# Altium integrated library NSC Amplifier.IntLib: 1615 symbols (part 24 of 44)
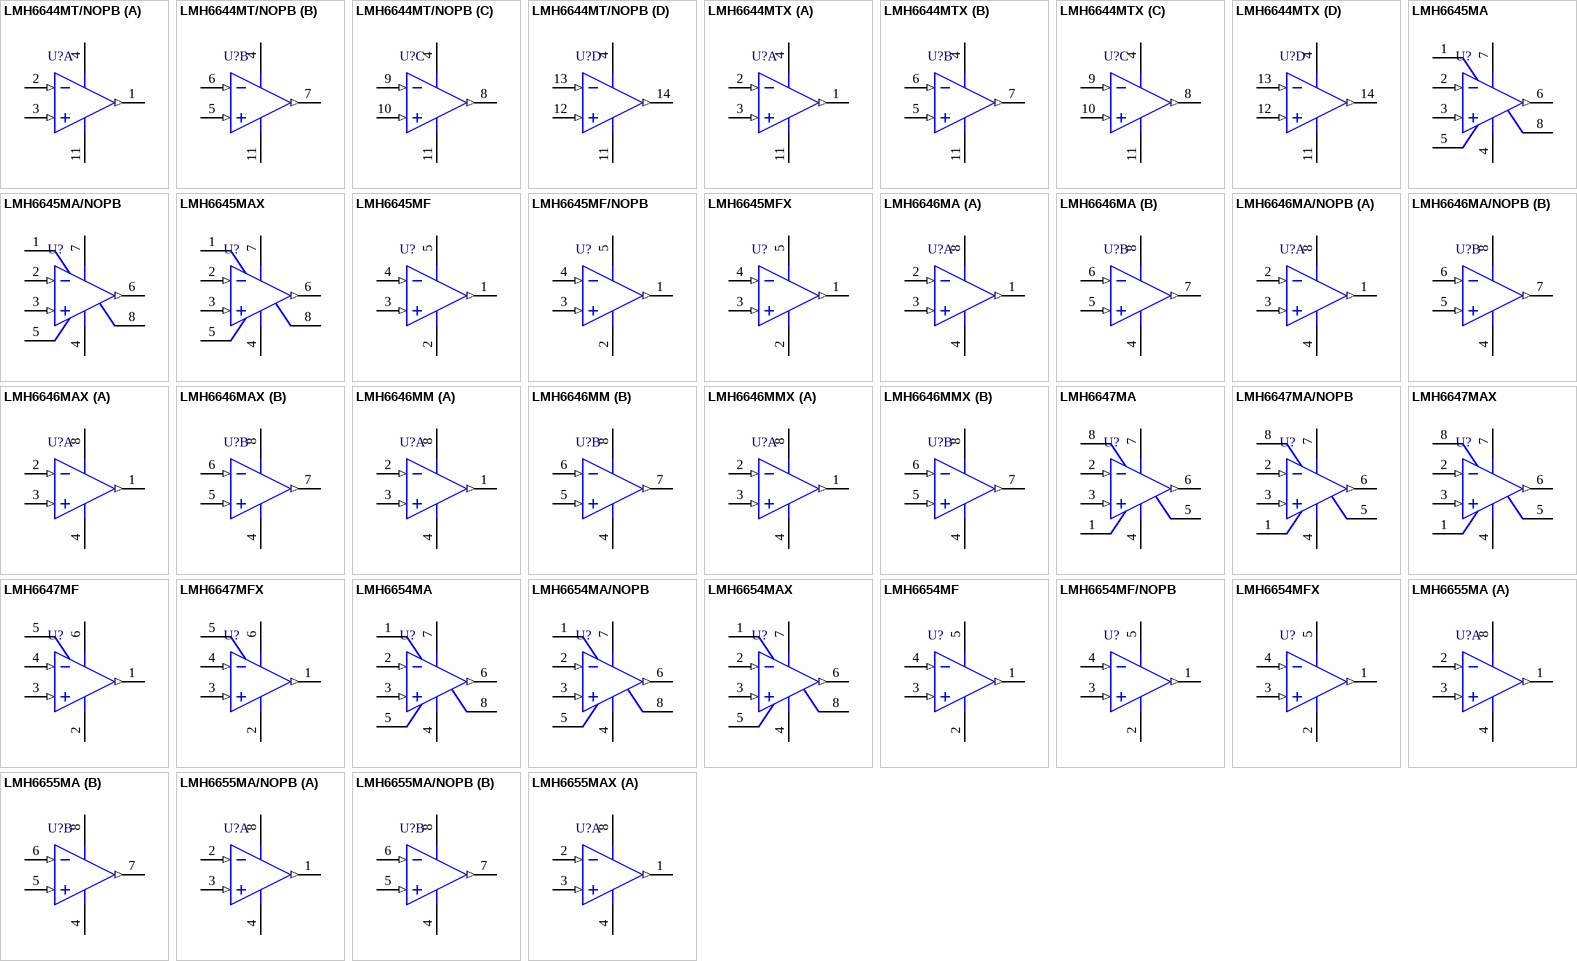
[diagram p105: symbols LMH6644MT/NOPB to LMH6655MAX]

## LMH6645MF/NOPB
designator U?
2.7V, 650uA, 65MHz, Rail-to-Rail Input and Output Amplifiers with Shutdown Option, 5-pin SOT-23, Pb-Free; PartNumber: LMH6645MF/NOPB; Manufacturer: National Semiconductor; PackageTopMarking: A68A*XTT; PowerWise: Y; Published: 1-Mar-2010; DatasheetVersion: Jun-2005; PackageVersion: revD, Aug-2008; PackageReference: MF05A; Publisher: Altium Limited; PackageDescription: Molded SOT-23, .115 x .063 x .040 in Body, 5 Lead, .0375 in Pitch; Supplier 1: Digi-Key; Supplier Part Number 1: LMH6645MFTR-ND; Supplier 2: Digi-Key; Supplier Part Number 2: LMH6645MFCT-ND; Supplier 3: Digi-Key; Supplier Part Number 3: LMH6645MFDKR-ND; Supplier 4: Farnell; Supplier Part Number 4: 1468899; RoHS: Y; PinCount: 5; CompType: Amplifiers; ComponentLink1Description: LMH6645 Datasheet; ComponentLink1URL: http://www.national.com/ds/LM/LMH6645.pdf; ComponentLink2Description: LMH6645 Web Page; ComponentLink2URL: http://www.national.com/pf/LM/LMH6645.html; ComponentLink3Description: MF05A Package Page; ComponentLink3URL: http://www.national.com/packaging/folders/mf05a.html
footprint MF05A_N (SOT23, 5-Leads, Body 2.9x1.6mm, Pitch 0.95mm, Lead Span 2.8mm, IPC Medium Density)
footprint MF05A_L (SOT23, 5-Leads, Body 2.9x1.6mm, Pitch 0.95mm, Lead Span 2.8mm, IPC High Density)
footprint MF05A_M (SOT23, 5-Leads, Body 2.9x1.6mm, Pitch 0.95mm, Lead Span 2.8mm, IPC Low Density)
simulation model LMH6645 (SUBCKT)
pins: 1 OUT (out), 2 V- (power), 3 IN+ (in), 4 IN- (in), 5 V+ (power)

## LMH6645MFX
designator U?
2.7V, 650uA, 65MHz, Rail-to-Rail Input and Output Amplifiers with Shutdown Option, 5-pin SOT-23; PartNumber: LMH6645MFX; Manufacturer: National Semiconductor; PackageTopMarking: A68A*XTT; PowerWise: Y; Published: 1-Mar-2010; DatasheetVersion: Jun-2005; PackageVersion: revD, Aug-2008; PackageReference: MF05A; Publisher: Altium Limited; PackageDescription: Molded SOT-23, .115 x .063 x .040 in Body, 5 Lead, .0375 in Pitch; RoHS: N; PinCount: 5; CompType: Amplifiers; ComponentLink1Description: LMH6645 Datasheet; ComponentLink1URL: http://www.national.com/ds/LM/LMH6645.pdf; ComponentLink2Description: LMH6645 Web Page; ComponentLink2URL: http://www.national.com/pf/LM/LMH6645.html; ComponentLink3Description: MF05A Package Page; ComponentLink3URL: http://www.national.com/packaging/folders/mf05a.html
footprint MF05A_N (SOT23, 5-Leads, Body 2.9x1.6mm, Pitch 0.95mm, Lead Span 2.8mm, IPC Medium Density)
footprint MF05A_L (SOT23, 5-Leads, Body 2.9x1.6mm, Pitch 0.95mm, Lead Span 2.8mm, IPC High Density)
footprint MF05A_M (SOT23, 5-Leads, Body 2.9x1.6mm, Pitch 0.95mm, Lead Span 2.8mm, IPC Low Density)
simulation model LMH6645 (SUBCKT)
pins: 1 OUT (out), 2 V- (power), 3 IN+ (in), 4 IN- (in), 5 V+ (power)

## LMH6646MA
designator U?
2.7V, 650uA, 65MHz, Rail-to-Rail Input and Output Amplifiers with Shutdown Option, 8-pin Narrow SOIC; PartNumber: LMH6646MA; Manufacturer: National Semiconductor; PackageTopMarking: NSZXTT*LMH66*46MA; PowerWise: Y; Published: 4-Dec-2008; LatestRevisionDate: 13-Jan-2009; LatestRevisionNote: Sim Model Added.; DatasheetVersion: Jun-2005; PackageVersion: revM, May-2009; PackageReference: M08A; Publisher: Altium Limited; PackageDescription: SOIC Narrow, 4.9 x 3.9 x 1.45mm, 8 Lead, 1.27mm Pitch; RoHS: N; PinCount: 8; CompType: Amplifiers; Code_JEDEC: MS-012-AA; Code_IPC: SOIC127P600-8; ComponentLink1Description: LMH6646 Datasheet; ComponentLink1URL: http://www.national.com/ds/LM/LMH6646.pdf; ComponentLink2Description: LMH6646 Web Page; ComponentLink2URL: http://www.national.com/pf/LM/LMH6646.html; ComponentLink3Description: M08A Package Page; ComponentLink3URL: http://www.national.com/packaging/folders/m08a.html
footprint M08A_N (SOIC, 8-Leads, Body 4.9x3.9mm, Pitch 1.27mm, IPC Medium Density)
footprint M08A_L (SOIC, 8-Leads, Body 4.9x3.9mm, Pitch 1.27mm, IPC High Density)
footprint M08A_M (SOIC, 8-Leads, Body 4.9x3.9mm, Pitch 1.27mm, IPC Low Density)
simulation model LMH6646 (SUBCKT)
pins on every part: 4 V- (power), 8 V+ (power)
part A pins: 1 OUTA (out), 2 INA- (in), 3 INA+ (in)
part B pins: 5 INB+ (in), 6 INB- (in), 7 OUTB (out)

## LMH6646MA/NOPB
designator U?
2.7V, 650uA, 65MHz, Rail-to-Rail Input and Output Amplifiers with Shutdown Option, 8-pin Narrow SOIC, Pb-Free; PartNumber: LMH6646MA/NOPB; Manufacturer: National Semiconductor; PackageTopMarking: NSZXTT*LMH66*46MA; PowerWise: Y; Published: 1-Mar-2010; DatasheetVersion: Jun-2005; PackageVersion: revM, May-2009; PackageReference: M08A; Publisher: Altium Limited; PackageDescription: SOIC Narrow, 4.9 x 3.9 x 1.45mm, 8 Lead, 1.27mm Pitch; Supplier 1: Digi-Key; Supplier Part Number 1: LMH6646MA-ND; Supplier 2: Farnell; Supplier Part Number 2: 1258319; RoHS: Y; PinCount: 8; CompType: Amplifiers; Code_JEDEC: MS-012-AA; Code_IPC: SOIC127P600-8; ComponentLink1Description: LMH6646 Datasheet; ComponentLink1URL: http://www.national.com/ds/LM/LMH6646.pdf; ComponentLink2Description: LMH6646 Web Page; ComponentLink2URL: http://www.national.com/pf/LM/LMH6646.html; ComponentLink3Description: M08A Package Page; ComponentLink3URL: http://www.national.com/packaging/folders/m08a.html
footprint M08A_N (SOIC, 8-Leads, Body 4.9x3.9mm, Pitch 1.27mm, IPC Medium Density)
footprint M08A_L (SOIC, 8-Leads, Body 4.9x3.9mm, Pitch 1.27mm, IPC High Density)
footprint M08A_M (SOIC, 8-Leads, Body 4.9x3.9mm, Pitch 1.27mm, IPC Low Density)
simulation model LMH6646 (SUBCKT)
pins on every part: 4 V- (power), 8 V+ (power)
part A pins: 1 OUTA (out), 2 INA- (in), 3 INA+ (in)
part B pins: 5 INB+ (in), 6 INB- (in), 7 OUTB (out)

## LMH6646MAX
designator U?
2.7V, 650uA, 65MHz, Rail-to-Rail Input and Output Amplifiers with Shutdown Option, 8-pin Narrow SOIC; PartNumber: LMH6646MAX; Manufacturer: National Semiconductor; PackageTopMarking: NSZXTT*LMH66*46MA; PowerWise: Y; Published: 1-Mar-2010; DatasheetVersion: Jun-2005; PackageVersion: revM, May-2009; PackageReference: M08A; Publisher: Altium Limited; PackageDescription: SOIC Narrow, 4.9 x 3.9 x 1.45mm, 8 Lead, 1.27mm Pitch; RoHS: N; PinCount: 8; CompType: Amplifiers; Code_JEDEC: MS-012-AA; Code_IPC: SOIC127P600-8; ComponentLink1Description: LMH6646 Datasheet; ComponentLink1URL: http://www.national.com/ds/LM/LMH6646.pdf; ComponentLink2Description: LMH6646 Web Page; ComponentLink2URL: http://www.national.com/pf/LM/LMH6646.html; ComponentLink3Description: M08A Package Page; ComponentLink3URL: http://www.national.com/packaging/folders/m08a.html
footprint M08A_N (SOIC, 8-Leads, Body 4.9x3.9mm, Pitch 1.27mm, IPC Medium Density)
footprint M08A_L (SOIC, 8-Leads, Body 4.9x3.9mm, Pitch 1.27mm, IPC High Density)
footprint M08A_M (SOIC, 8-Leads, Body 4.9x3.9mm, Pitch 1.27mm, IPC Low Density)
simulation model LMH6646 (SUBCKT)
pins on every part: 4 V- (power), 8 V+ (power)
part A pins: 1 OUTA (out), 2 INA- (in), 3 INA+ (in)
part B pins: 5 INB+ (in), 6 INB- (in), 7 OUTB (out)

## LMH6646MM
designator U?
2.7V, 650uA, 65MHz, Rail-to-Rail Input and Output Amplifiers with Shutdown Option, 8-pin Mini SOIC; PartNumber: LMH6646MM; Manufacturer: National Semiconductor; PackageTopMarking: ZXTT*A70A; PowerWise: Y; Published: 4-Dec-2008; LatestRevisionDate: 13-Jan-2009; LatestRevisionNote: Sim Model Added.; DatasheetVersion: Jun-2005; PackageVersion: revF, Apr-2008; PackageReference: MUA08A; Publisher: Altium Limited; PackageDescription: MINI SOIC, .118 x .118 x .034in, 8 Lead, .0256in Pitch; Supplier 1: Digi-Key; Supplier Part Number 1: LMH6646MMTR-ND; Supplier 2: Digi-Key; Supplier Part Number 2: LMH6646MMCT-ND; Supplier 3: Farnell; Supplier Part Number 3: 1312814; RoHS: N; PinCount: 8; CompType: Amplifiers; Code_JEDEC: MO-187-AA; ComponentLink1Description: LMH6646 Datasheet; ComponentLink1URL: http://www.national.com/ds/LM/LMH6646.pdf; ComponentLink2Description: LMH6646 Web Page; ComponentLink2URL: http://www.national.com/pf/LM/LMH6646.html; ComponentLink3Description: MUA08A Package Page; ComponentLink3URL: http://www.national.com/packaging/folders/mua08a.html
footprint MUA08A_N (TSOP, 8-Leads, Body 3x3mm, Pitch 0.65mm, IPC Medium Density)
footprint MUA08A_L (TSOP, 8-Leads, Body 3x3mm, Pitch 0.65mm, IPC High Density)
footprint MUA08A_M (TSOP, 8-Leads, Body 3x3mm, Pitch 0.65mm, IPC Low Density)
simulation model LMH6646 (SUBCKT)
pins on every part: 4 V- (power), 8 V+ (power)
part A pins: 1 OUTA (out), 2 INA- (in), 3 INA+ (in)
part B pins: 5 INB+ (in), 6 INB- (in), 7 OUTB (out)

## LMH6646MMX
designator U?
2.7V, 650uA, 65MHz, Rail-to-Rail Input and Output Amplifiers with Shutdown Option, 8-pin Mini SOIC; PartNumber: LMH6646MMX; Manufacturer: National Semiconductor; PackageTopMarking: ZXTT*A70A; PowerWise: Y; Published: 1-Mar-2010; DatasheetVersion: Jun-2005; PackageVersion: revF, Apr-2008; PackageReference: MUA08A; Publisher: Altium Limited; PackageDescription: MINI SOIC, .118 x .118 x .034in, 8 Lead, .0256in Pitch; Supplier 1: Digi-Key; Supplier Part Number 1: LMH6646MMX-ND; RoHS: N; PinCount: 8; CompType: Amplifiers; Code_JEDEC: MO-187-AA; ComponentLink1Description: LMH6646 Datasheet; ComponentLink1URL: http://www.national.com/ds/LM/LMH6646.pdf; ComponentLink2Description: LMH6646 Web Page; ComponentLink2URL: http://www.national.com/pf/LM/LMH6646.html; ComponentLink3Description: MUA08A Package Page; ComponentLink3URL: http://www.national.com/packaging/folders/mua08a.html
footprint MUA08A_N (TSOP, 8-Leads, Body 3x3mm, Pitch 0.65mm, IPC Medium Density)
footprint MUA08A_L (TSOP, 8-Leads, Body 3x3mm, Pitch 0.65mm, IPC High Density)
footprint MUA08A_M (TSOP, 8-Leads, Body 3x3mm, Pitch 0.65mm, IPC Low Density)
simulation model LMH6646 (SUBCKT)
pins on every part: 4 V- (power), 8 V+ (power)
part A pins: 1 OUTA (out), 2 INA- (in), 3 INA+ (in)
part B pins: 5 INB+ (in), 6 INB- (in), 7 OUTB (out)

## LMH6647MA
designator U?
2.7V, 650uA, 65MHz, Rail-to-Rail Input and Output Amplifiers with Shutdown Option, 8-pin Narrow SOIC; PartNumber: LMH6647MA; Manufacturer: National Semiconductor; PackageTopMarking: NSZXTT*LMH66*47MA; PowerWise: Y; Published: 4-Dec-2008; LatestRevisionDate: 13-Jan-2009; LatestRevisionNote: Sim Model Added.; DatasheetVersion: Jun-2005; PackageVersion: revM, May-2009; PackageReference: M08A; Publisher: Altium Limited; PackageDescription: SOIC Narrow, 4.9 x 3.9 x 1.45mm, 8 Lead, 1.27mm Pitch; RoHS: N; PinCount: 8; CompType: Amplifiers; Code_JEDEC: MS-012-AA; Code_IPC: SOIC127P600-8; ComponentLink1Description: LMH6647 Datasheet; ComponentLink1URL: http://www.national.com/ds/LM/LMH6647.pdf; ComponentLink2Description: LMH6647 Web Page; ComponentLink2URL: http://www.national.com/pf/LM/LMH6647.html; ComponentLink3Description: M08A Package Page; ComponentLink3URL: http://www.national.com/packaging/folders/m08a.html
footprint M08A_N (SOIC, 8-Leads, Body 4.9x3.9mm, Pitch 1.27mm, IPC Medium Density)
footprint M08A_L (SOIC, 8-Leads, Body 4.9x3.9mm, Pitch 1.27mm, IPC High Density)
footprint M08A_M (SOIC, 8-Leads, Body 4.9x3.9mm, Pitch 1.27mm, IPC Low Density)
simulation model LMH6647 (SUBCKT)
pins: 1 NC, 2 IN- (in), 3 IN+ (in), 4 V- (power), 5 NC, 6 OUT (out), 7 V+ (power), 8 SD

## LMH6647MA/NOPB
designator U?
2.7V, 650µA, 55MHz, Rail-to-Rail Input and Output Amplifiers with Shutdown Option, 8-pin Narrow SOIC, Pb-Free; PartNumber: LMH6647MA/NOPB; Manufacturer: National Semiconductor; PackageTopMarking: NSZXTT*LMH66*47MA; PowerWise: Y; Published: 1-Mar-2010; DatasheetVersion: Jun-2005; PackageVersion: revM, May-2009; PackageReference: M08A; Publisher: Altium Limited; PackageDescription: SOIC Narrow, 4.9 x 3.9 x 1.45mm, 8 Lead, 1.27mm Pitch; Supplier 1: Digi-Key; Supplier Part Number 1: LMH6647MA-ND; RoHS: Y; PinCount: 8; CompType: Amplifiers; Code_JEDEC: MS-012-AA; Code_IPC: SOIC127P600-8; ComponentLink1Description: LMH6647 Datasheet; ComponentLink1URL: http://www.national.com/ds/LM/LMH6647.pdf; ComponentLink2Description: LMH6647 Web Page; ComponentLink2URL: http://www.national.com/pf/LM/LMH6647.html; ComponentLink3Description: M08A Package Page; ComponentLink3URL: http://www.national.com/packaging/folders/m08a.html
footprint M08A_N (SOIC, 8-Leads, Body 4.9x3.9mm, Pitch 1.27mm, IPC Medium Density)
footprint M08A_L (SOIC, 8-Leads, Body 4.9x3.9mm, Pitch 1.27mm, IPC High Density)
footprint M08A_M (SOIC, 8-Leads, Body 4.9x3.9mm, Pitch 1.27mm, IPC Low Density)
simulation model LMH6647 (SUBCKT)
pins: 1 NC, 2 IN- (in), 3 IN+ (in), 4 V- (power), 5 NC, 6 OUT (out), 7 V+ (power), 8 SD

## LMH6647MAX
designator U?
2.7V, 650µA, 55MHz, Rail-to-Rail Input and Output Amplifiers with Shutdown Option, 8-pin Narrow SOIC; PartNumber: LMH6647MAX; Manufacturer: National Semiconductor; PackageTopMarking: NSZXTT*LMH66*47MA; PowerWise: Y; Published: 1-Mar-2010; DatasheetVersion: Jun-2005; PackageVersion: revM, May-2009; PackageReference: M08A; Publisher: Altium Limited; PackageDescription: SOIC Narrow, 4.9 x 3.9 x 1.45mm, 8 Lead, 1.27mm Pitch; RoHS: N; PinCount: 8; CompType: Amplifiers; Code_JEDEC: MS-012-AA; Code_IPC: SOIC127P600-8; ComponentLink1Description: LMH6647 Datasheet; ComponentLink1URL: http://www.national.com/ds/LM/LMH6647.pdf; ComponentLink2Description: LMH6647 Web Page; ComponentLink2URL: http://www.national.com/pf/LM/LMH6647.html; ComponentLink3Description: M08A Package Page; ComponentLink3URL: http://www.national.com/packaging/folders/m08a.html
footprint M08A_N (SOIC, 8-Leads, Body 4.9x3.9mm, Pitch 1.27mm, IPC Medium Density)
footprint M08A_L (SOIC, 8-Leads, Body 4.9x3.9mm, Pitch 1.27mm, IPC High Density)
footprint M08A_M (SOIC, 8-Leads, Body 4.9x3.9mm, Pitch 1.27mm, IPC Low Density)
simulation model LMH6647 (SUBCKT)
pins: 1 NC, 2 IN- (in), 3 IN+ (in), 4 V- (power), 5 NC, 6 OUT (out), 7 V+ (power), 8 SD

## LMH6647MF
designator U?
2.7V, 650uA, 65MHz, Rail-to-Rail Input and Output Amplifiers with Shutdown Option, 6-pin SOT-23; PartNumber: LMH6647MF; Manufacturer: National Semiconductor; PackageTopMarking: A69A*XTT; PowerWise: Y; Published: 4-Dec-2008; LatestRevisionDate: 13-Jan-2009; LatestRevisionNote: Sim Model Added.; DatasheetVersion: Jun-2005; PackageVersion: revC, Sep-2005; PackageReference: MF06A; Publisher: Altium Limited; PackageDescription: Molded SOT-23, .115 x .063 x .040in Body, 6 Lead, .0375in in Pitch; Supplier 1: Digi-Key; Supplier Part Number 1: LMH6647MFTR-ND; Supplier 2: Digi-Key; Supplier Part Number 2: LMH6647MFCT-ND; Supplier 3: Farnell; Supplier Part Number 3: 1312815; RoHS: N; PinCount: 6; CompType: Amplifiers; Code_JEDEC: MO-178-AB; Code_IPC: SOT26A-6; ComponentLink1Description: LMH6647 Datasheet; ComponentLink1URL: http://www.national.com/ds/LM/LMH6647.pdf; ComponentLink2Description: LMH6647 Web Page; ComponentLink2URL: http://www.national.com/pf/LM/LMH6647.html; ComponentLink3Description: MF06A Package Page; ComponentLink3URL: http://www.national.com/packaging/folders/mf06a.html
footprint MF06A_N (SOT23, 6-Leads, Body 2.9x1.6mm, Pitch 0.95mm, Lead Span 2.8mm, IPC Medium Density)
footprint MF06A_L (SOT23, 6-Leads, Body 2.9x1.6mm, Pitch 0.95mm, Lead Span 2.8mm, IPC High Density)
footprint MF06A_M (SOT23, 6-Leads, Body 2.9x1.6mm, Pitch 0.95mm, Lead Span 2.8mm, IPC Low Density)
simulation model LMH6647 (SUBCKT)
pins: 1 OUT (out), 2 V- (power), 3 IN+ (in), 4 IN- (in), 5 SD, 6 V+ (power)

## LMH6647MFX
designator U?
2.7V, 650µA, 55MHz, Rail-to-Rail Input and Output Amplifiers with Shutdown Option, 6-pin SOT-23; PartNumber: LMH6647MFX; Manufacturer: National Semiconductor; PackageTopMarking: A69A*XTT; PowerWise: Y; Published: 1-Mar-2010; DatasheetVersion: Jun-2005; PackageVersion: revC, Sep-2005; PackageReference: MF06A; Publisher: Altium Limited; PackageDescription: Molded SOT-23, .115 x .063 x .040in Body, 6 Lead, .0375in in Pitch; Supplier 1: Digi-Key; Supplier Part Number 1: LMH6647MFX-ND; RoHS: N; PinCount: 6; CompType: Amplifiers; Code_JEDEC: MO-178-AB; Code_IPC: SOT26A-6; ComponentLink1Description: LMH6647 Datasheet; ComponentLink1URL: http://www.national.com/ds/LM/LMH6647.pdf; ComponentLink2Description: LMH6647 Web Page; ComponentLink2URL: http://www.national.com/pf/LM/LMH6647.html; ComponentLink3Description: MF06A Package Page; ComponentLink3URL: http://www.national.com/packaging/folders/mf06a.html
footprint MF06A_N (SOT23, 6-Leads, Body 2.9x1.6mm, Pitch 0.95mm, Lead Span 2.8mm, IPC Medium Density)
footprint MF06A_L (SOT23, 6-Leads, Body 2.9x1.6mm, Pitch 0.95mm, Lead Span 2.8mm, IPC High Density)
footprint MF06A_M (SOT23, 6-Leads, Body 2.9x1.6mm, Pitch 0.95mm, Lead Span 2.8mm, IPC Low Density)
simulation model LMH6647 (SUBCKT)
pins: 1 OUT (out), 2 V- (power), 3 IN+ (in), 4 IN- (in), 5 SD, 6 V+ (power)

## LMH6654MA
designator U?
Single Low Power, 250 MHz, Low Noise Amplifier, 8-pin Narrow SOIC; PartNumber: LMH6654MA; Manufacturer: National Semiconductor; PackageTopMarking: NSZXTT*LMH66*54MA; PowerWise: Y; CompType: Amplifiers; Published: 4-Dec-2008; LatestRevisionDate: 13-Jan-2009; LatestRevisionNote: Sim Model Added.; DatasheetVersion: Jun-2009; PackageVersion: revM, May-2009; PackageReference: M08A; Publisher: Altium Limited; PackageDescription: SOIC Narrow, 4.9 x 3.9 x 1.45mm, 8 Lead, 1.27mm Pitch; RoHS: N; PinCount: 8; Code_JEDEC: MS-012-AA; Code_IPC: SOIC127P600-8; ComponentLink1Description: LMH6654 Datasheet; ComponentLink1URL: http://www.national.com/ds/LM/LMH6654.pdf; ComponentLink2Description: LMH6654 Web Page; ComponentLink2URL: http://www.national.com/pf/LM/LMH6654.html; ComponentLink3Description: M08A Package Page; ComponentLink3URL: http://www.national.com/packaging/folders/m08a.html
footprint M08A_N (SOIC, 8-Leads, Body 4.9x3.9mm, Pitch 1.27mm, IPC Medium Density)
footprint M08A_L (SOIC, 8-Leads, Body 4.9x3.9mm, Pitch 1.27mm, IPC High Density)
footprint M08A_M (SOIC, 8-Leads, Body 4.9x3.9mm, Pitch 1.27mm, IPC Low Density)
simulation model LMH6655 (SUBCKT)
pins: 1 NC, 2 IN- (in), 3 IN+ (in), 4 V- (power), 5 NC, 6 OUT (out), 7 V+ (power), 8 NC

## LMH6654MA/NOPB
designator U?
Single/Dual Low Power, 250MHz, Low Noise Amplifiers, 8-pin Narrow SOIC, Pb-Free; PartNumber: LMH6654MA/NOPB; Manufacturer: National Semiconductor; PackageTopMarking: NSZXTT*LMH66*54MA; PowerWise: Y; Published: 1-Mar-2010; DatasheetVersion: Jun-2009; PackageVersion: revM, May-2009; PackageReference: M08A; Publisher: Altium Limited; PackageDescription: SOIC Narrow, 4.9 x 3.9 x 1.45mm, 8 Lead, 1.27mm Pitch; Supplier 1: Digi-Key; Supplier Part Number 1: LMH6654MA-ND; RoHS: Y; PinCount: 8; CompType: Amplifiers; Code_JEDEC: MS-012-AA; Code_IPC: SOIC127P600-8; ComponentLink1Description: LMH6654 Datasheet; ComponentLink1URL: http://www.national.com/ds/LM/LMH6654.pdf; ComponentLink2Description: LMH6654 Web Page; ComponentLink2URL: http://www.national.com/pf/LM/LMH6654.html; ComponentLink3Description: M08A Package Page; ComponentLink3URL: http://www.national.com/packaging/folders/m08a.html
footprint M08A_N (SOIC, 8-Leads, Body 4.9x3.9mm, Pitch 1.27mm, IPC Medium Density)
footprint M08A_L (SOIC, 8-Leads, Body 4.9x3.9mm, Pitch 1.27mm, IPC High Density)
footprint M08A_M (SOIC, 8-Leads, Body 4.9x3.9mm, Pitch 1.27mm, IPC Low Density)
simulation model LMH6655 (SUBCKT)
pins: 1 NC, 2 IN- (in), 3 IN+ (in), 4 V- (power), 5 NC, 6 OUT (out), 7 V+ (power), 8 NC

## LMH6654MAX
designator U?
Single/Dual Low Power, 250MHz, Low Noise Amplifiers, 8-pin Narrow SOIC; PartNumber: LMH6654MAX; Manufacturer: National Semiconductor; PackageTopMarking: NSZXTT*LMH66*54MA; PowerWise: Y; Published: 1-Mar-2010; DatasheetVersion: Jun-2009; PackageVersion: revM, May-2009; PackageReference: M08A; Publisher: Altium Limited; PackageDescription: SOIC Narrow, 4.9 x 3.9 x 1.45mm, 8 Lead, 1.27mm Pitch; RoHS: N; PinCount: 8; CompType: Amplifiers; Code_JEDEC: MS-012-AA; Code_IPC: SOIC127P600-8; ComponentLink1Description: LMH6654 Datasheet; ComponentLink1URL: http://www.national.com/ds/LM/LMH6654.pdf; ComponentLink2Description: LMH6654 Web Page; ComponentLink2URL: http://www.national.com/pf/LM/LMH6654.html; ComponentLink3Description: M08A Package Page; ComponentLink3URL: http://www.national.com/packaging/folders/m08a.html
footprint M08A_N (SOIC, 8-Leads, Body 4.9x3.9mm, Pitch 1.27mm, IPC Medium Density)
footprint M08A_L (SOIC, 8-Leads, Body 4.9x3.9mm, Pitch 1.27mm, IPC High Density)
footprint M08A_M (SOIC, 8-Leads, Body 4.9x3.9mm, Pitch 1.27mm, IPC Low Density)
simulation model LMH6655 (SUBCKT)
pins: 1 NC, 2 IN- (in), 3 IN+ (in), 4 V- (power), 5 NC, 6 OUT (out), 7 V+ (power), 8 NC

## LMH6654MF
designator U?
Single Low Power, 250 MHz, Low Noise Amplifier, 5-pin SOT-23; PartNumber: LMH6654MF; Manufacturer: National Semiconductor; PackageTopMarking: A66A*XTT; PowerWise: Y; CompType: Amplifiers; Published: 4-Dec-2008; LatestRevisionDate: 13-Jan-2009; LatestRevisionNote: Sim Model Added.; DatasheetVersion: Jun-2009; PackageVersion: revD, Aug-2008; PackageReference: MF05A; Publisher: Altium Limited; PackageDescription: Molded SOT-23, .115 x .063 x .040 in Body, 5 Lead, .0375 in Pitch; Supplier 1: Farnell; Supplier Part Number 1: 1312816; RoHS: N; PinCount: 5; ComponentLink1Description: LMH6654 Datasheet; ComponentLink1URL: http://www.national.com/ds/LM/LMH6654.pdf; ComponentLink2Description: LMH6654 Web Page; ComponentLink2URL: http://www.national.com/pf/LM/LMH6654.html; ComponentLink3Description: MF05A Package Page; ComponentLink3URL: http://www.national.com/packaging/folders/mf05a.html
footprint MF05A_N (SOT23, 5-Leads, Body 2.9x1.6mm, Pitch 0.95mm, Lead Span 2.8mm, IPC Medium Density)
footprint MF05A_L (SOT23, 5-Leads, Body 2.9x1.6mm, Pitch 0.95mm, Lead Span 2.8mm, IPC High Density)
footprint MF05A_M (SOT23, 5-Leads, Body 2.9x1.6mm, Pitch 0.95mm, Lead Span 2.8mm, IPC Low Density)
simulation model LMH6655 (SUBCKT)
pins: 1 OUT (out), 2 V- (power), 3 IN+ (in), 4 IN- (in), 5 V+ (power)

## LMH6654MF/NOPB
designator U?
Single/Dual Low Power, 250MHz, Low Noise Amplifiers, 5-pin SOT-23, Pb-Free; PartNumber: LMH6654MF/NOPB; Manufacturer: National Semiconductor; PackageTopMarking: A66A*XTT; PowerWise: Y; Published: 1-Mar-2010; DatasheetVersion: Jun-2009; PackageVersion: revD, Aug-2008; PackageReference: MF05A; Publisher: Altium Limited; PackageDescription: Molded SOT-23, .115 x .063 x .040 in Body, 5 Lead, .0375 in Pitch; Supplier 1: Digi-Key; Supplier Part Number 1: LMH6654MFTR-ND; Supplier 2: Digi-Key; Supplier Part Number 2: LMH6654MFCT-ND; Supplier 3: Digi-Key; Supplier Part Number 3: LMH6654MFDKR-ND; Supplier 4: Farnell; Supplier Part Number 4: 1472348; RoHS: Y; PinCount: 5; CompType: Amplifiers; ComponentLink1Description: LMH6654 Datasheet; ComponentLink1URL: http://www.national.com/ds/LM/LMH6654.pdf; ComponentLink2Description: LMH6654 Web Page; ComponentLink2URL: http://www.national.com/pf/LM/LMH6654.html; ComponentLink3Description: MF05A Package Page; ComponentLink3URL: http://www.national.com/packaging/folders/mf05a.html
footprint MF05A_N (SOT23, 5-Leads, Body 2.9x1.6mm, Pitch 0.95mm, Lead Span 2.8mm, IPC Medium Density)
footprint MF05A_L (SOT23, 5-Leads, Body 2.9x1.6mm, Pitch 0.95mm, Lead Span 2.8mm, IPC High Density)
footprint MF05A_M (SOT23, 5-Leads, Body 2.9x1.6mm, Pitch 0.95mm, Lead Span 2.8mm, IPC Low Density)
simulation model LMH6655 (SUBCKT)
pins: 1 OUT (out), 2 V- (power), 3 IN+ (in), 4 IN- (in), 5 V+ (power)

## LMH6654MFX
designator U?
Single/Dual Low Power, 250MHz, Low Noise Amplifiers, 5-pin SOT-23; PartNumber: LMH6654MFX; Manufacturer: National Semiconductor; PackageTopMarking: A66A*XTT; PowerWise: Y; Published: 1-Mar-2010; DatasheetVersion: Jun-2009; PackageVersion: revD, Aug-2008; PackageReference: MF05A; Publisher: Altium Limited; PackageDescription: Molded SOT-23, .115 x .063 x .040 in Body, 5 Lead, .0375 in Pitch; RoHS: N; PinCount: 5; CompType: Amplifiers; ComponentLink1Description: LMH6654 Datasheet; ComponentLink1URL: http://www.national.com/ds/LM/LMH6654.pdf; ComponentLink2Description: LMH6654 Web Page; ComponentLink2URL: http://www.national.com/pf/LM/LMH6654.html; ComponentLink3Description: MF05A Package Page; ComponentLink3URL: http://www.national.com/packaging/folders/mf05a.html
footprint MF05A_N (SOT23, 5-Leads, Body 2.9x1.6mm, Pitch 0.95mm, Lead Span 2.8mm, IPC Medium Density)
footprint MF05A_L (SOT23, 5-Leads, Body 2.9x1.6mm, Pitch 0.95mm, Lead Span 2.8mm, IPC High Density)
footprint MF05A_M (SOT23, 5-Leads, Body 2.9x1.6mm, Pitch 0.95mm, Lead Span 2.8mm, IPC Low Density)
simulation model LMH6655 (SUBCKT)
pins: 1 OUT (out), 2 V- (power), 3 IN+ (in), 4 IN- (in), 5 V+ (power)

## LMH6655MA
designator U?
Dual Low Power, 250 MHz, Low Noise Amplifier, 8-pin Narrow SOIC; PartNumber: LMH6655MA; Manufacturer: National Semiconductor; PackageTopMarking: NSZXTT*LMH66*55MA; PowerWise: Y; CompType: Amplifiers; Published: 4-Dec-2008; LatestRevisionDate: 13-Jan-2009; LatestRevisionNote: Sim Model Added.; DatasheetVersion: Jun-2009; PackageVersion: revM, May-2009; PackageReference: M08A; Publisher: Altium Limited; PackageDescription: SOIC Narrow, 4.9 x 3.9 x 1.45mm, 8 Lead, 1.27mm Pitch; Supplier 1: Farnell; Supplier Part Number 1: 9490159; RoHS: N; PinCount: 8; Code_JEDEC: MS-012-AA; Code_IPC: SOIC127P600-8; ComponentLink1Description: LMH6655 Datasheet; ComponentLink1URL: http://www.national.com/ds/LM/LMH6655.pdf; ComponentLink2Description: LMH6655 Web Page; ComponentLink2URL: http://www.national.com/pf/LM/LMH6655.html; ComponentLink3Description: M08A Package Page; ComponentLink3URL: http://www.national.com/packaging/folders/m08a.html
footprint M08A_N (SOIC, 8-Leads, Body 4.9x3.9mm, Pitch 1.27mm, IPC Medium Density)
footprint M08A_L (SOIC, 8-Leads, Body 4.9x3.9mm, Pitch 1.27mm, IPC High Density)
footprint M08A_M (SOIC, 8-Leads, Body 4.9x3.9mm, Pitch 1.27mm, IPC Low Density)
simulation model LMH6655 (SUBCKT)
pins on every part: 4 V- (power), 8 V+ (power)
part A pins: 1 OUTA (out), 2 INA- (in), 3 INA+ (in)
part B pins: 5 INB+ (in), 6 INB- (in), 7 OUTB (out)

## LMH6655MA/NOPB
designator U?
Single/Dual Low Power, 250MHz, Low Noise Amplifiers, 8-pin Narrow SOIC, Pb-Free; PartNumber: LMH6655MA/NOPB; Manufacturer: National Semiconductor; PackageTopMarking: NSZXTT*LMH66*55MA; PowerWise: Y; Published: 1-Mar-2010; DatasheetVersion: Jun-2009; PackageVersion: revM, May-2009; PackageReference: M08A; Publisher: Altium Limited; PackageDescription: SOIC Narrow, 4.9 x 3.9 x 1.45mm, 8 Lead, 1.27mm Pitch; Supplier 1: Digi-Key; Supplier Part Number 1: LMH6655MA-ND; Supplier 2: Farnell; Supplier Part Number 2: 1693961; RoHS: Y; PinCount: 8; CompType: Amplifiers; Code_JEDEC: MS-012-AA; Code_IPC: SOIC127P600-8; ComponentLink1Description: LMH6655 Datasheet; ComponentLink1URL: http://www.national.com/ds/LM/LMH6655.pdf; ComponentLink2Description: LMH6655 Web Page; ComponentLink2URL: http://www.national.com/pf/LM/LMH6655.html; ComponentLink3Description: M08A Package Page; ComponentLink3URL: http://www.national.com/packaging/folders/m08a.html
footprint M08A_N (SOIC, 8-Leads, Body 4.9x3.9mm, Pitch 1.27mm, IPC Medium Density)
footprint M08A_L (SOIC, 8-Leads, Body 4.9x3.9mm, Pitch 1.27mm, IPC High Density)
footprint M08A_M (SOIC, 8-Leads, Body 4.9x3.9mm, Pitch 1.27mm, IPC Low Density)
simulation model LMH6655 (SUBCKT)
pins on every part: 4 V- (power), 8 V+ (power)
part A pins: 1 OUTA (out), 2 INA- (in), 3 INA+ (in)
part B pins: 5 INB+ (in), 6 INB- (in), 7 OUTB (out)

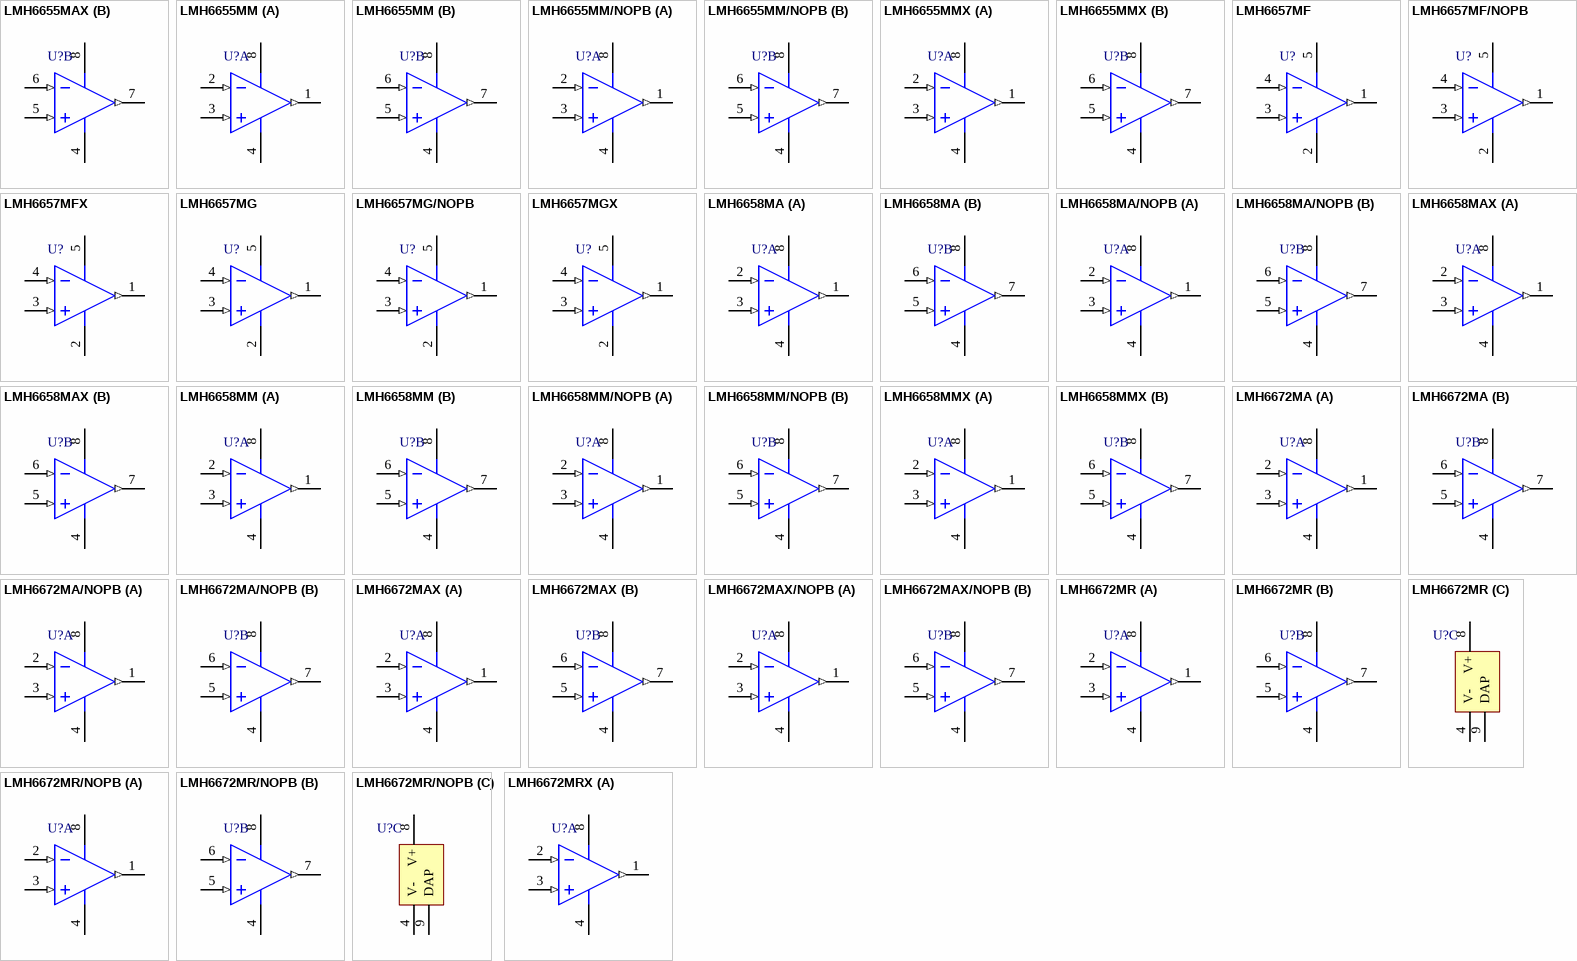
[diagram p48: symbols LMH6655MAX to LMH6672MRX]

## LMH6655MAX
designator U?
Single/Dual Low Power, 250MHz, Low Noise Amplifiers, 8-pin Narrow SOIC; PartNumber: LMH6655MAX; Manufacturer: National Semiconductor; PackageTopMarking: NSZXTT*LMH66*55MA; PowerWise: Y; Published: 1-Mar-2010; DatasheetVersion: Jun-2009; PackageVersion: revM, May-2009; PackageReference: M08A; Publisher: Altium Limited; PackageDescription: SOIC Narrow, 4.9 x 3.9 x 1.45mm, 8 Lead, 1.27mm Pitch; Supplier 1: Farnell; Supplier Part Number 1: 4132129; RoHS: N; PinCount: 8; CompType: Amplifiers; Code_JEDEC: MS-012-AA; Code_IPC: SOIC127P600-8; ComponentLink1Description: LMH6655 Datasheet; ComponentLink1URL: http://www.national.com/ds/LM/LMH6655.pdf; ComponentLink2Description: LMH6655 Web Page; ComponentLink2URL: http://www.national.com/pf/LM/LMH6655.html; ComponentLink3Description: M08A Package Page; ComponentLink3URL: http://www.national.com/packaging/folders/m08a.html
footprint M08A_N (SOIC, 8-Leads, Body 4.9x3.9mm, Pitch 1.27mm, IPC Medium Density)
footprint M08A_L (SOIC, 8-Leads, Body 4.9x3.9mm, Pitch 1.27mm, IPC High Density)
footprint M08A_M (SOIC, 8-Leads, Body 4.9x3.9mm, Pitch 1.27mm, IPC Low Density)
simulation model LMH6655 (SUBCKT)
pins on every part: 4 V- (power), 8 V+ (power)
part A pins: 1 OUTA (out), 2 INA- (in), 3 INA+ (in)
part B pins: 5 INB+ (in), 6 INB- (in), 7 OUTB (out)

## LMH6655MM
designator U?
Dual Low Power, 250 MHz, Low Noise Amplifier, 8-pin Mini SOIC; PartNumber: LMH6655MM; Manufacturer: National Semiconductor; PackageTopMarking: ZXTT*A67A; PowerWise: Y; CompType: Amplifiers; Published: 4-Dec-2008; LatestRevisionDate: 13-Jan-2009; LatestRevisionNote: Sim Model Added.; DatasheetVersion: Jun-2009; PackageVersion: revF, Apr-2008; PackageReference: MUA08A; Publisher: Altium Limited; PackageDescription: MINI SOIC, .118 x .118 x .034in, 8 Lead, .0256in Pitch; Supplier 1: Farnell; Supplier Part Number 1: 1312817; RoHS: N; PinCount: 8; Code_JEDEC: MO-187-AA; ComponentLink1Description: LMH6655 Datasheet; ComponentLink1URL: http://www.national.com/ds/LM/LMH6655.pdf; ComponentLink2Description: LMH6655 Web Page; ComponentLink2URL: http://www.national.com/pf/LM/LMH6655.html; ComponentLink3Description: MUA08A Package Page; ComponentLink3URL: http://www.national.com/packaging/folders/mua08a.html
footprint MUA08A_N (TSOP, 8-Leads, Body 3x3mm, Pitch 0.65mm, IPC Medium Density)
footprint MUA08A_L (TSOP, 8-Leads, Body 3x3mm, Pitch 0.65mm, IPC High Density)
footprint MUA08A_M (TSOP, 8-Leads, Body 3x3mm, Pitch 0.65mm, IPC Low Density)
simulation model LMH6655 (SUBCKT)
pins on every part: 4 V- (power), 8 V+ (power)
part A pins: 1 OUTA (out), 2 INA- (in), 3 INA+ (in)
part B pins: 5 INB+ (in), 6 INB- (in), 7 OUTB (out)

## LMH6655MM/NOPB
designator U?
Single/Dual Low Power, 250MHz, Low Noise Amplifiers, 8-pin Mini SOIC, Pb-Free; PartNumber: LMH6655MM/NOPB; Manufacturer: National Semiconductor; PackageTopMarking: ZXTT*A67A; PowerWise: Y; Published: 1-Mar-2010; DatasheetVersion: Jun-2009; PackageVersion: revF, Apr-2008; PackageReference: MUA08A; Publisher: Altium Limited; PackageDescription: MINI SOIC, .118 x .118 x .034in, 8 Lead, .0256in Pitch; Supplier 1: Digi-Key; Supplier Part Number 1: LMH6655MMTR-ND; Supplier 2: Digi-Key; Supplier Part Number 2: LMH6655MMCT-ND; Supplier 3: Digi-Key; Supplier Part Number 3: LMH6655MMDKR-ND; Supplier 4: Farnell; Supplier Part Number 4: 1559327; RoHS: Y; PinCount: 8; CompType: Amplifiers; Code_JEDEC: MO-187-AA; ComponentLink1Description: LMH6655 Datasheet; ComponentLink1URL: http://www.national.com/ds/LM/LMH6655.pdf; ComponentLink2Description: LMH6655 Web Page; ComponentLink2URL: http://www.national.com/pf/LM/LMH6655.html; ComponentLink3Description: MUA08A Package Page; ComponentLink3URL: http://www.national.com/packaging/folders/mua08a.html
footprint MUA08A_N (TSOP, 8-Leads, Body 3x3mm, Pitch 0.65mm, IPC Medium Density)
footprint MUA08A_L (TSOP, 8-Leads, Body 3x3mm, Pitch 0.65mm, IPC High Density)
footprint MUA08A_M (TSOP, 8-Leads, Body 3x3mm, Pitch 0.65mm, IPC Low Density)
simulation model LMH6655 (SUBCKT)
pins on every part: 4 V- (power), 8 V+ (power)
part A pins: 1 OUTA (out), 2 INA- (in), 3 INA+ (in)
part B pins: 5 INB+ (in), 6 INB- (in), 7 OUTB (out)

## LMH6655MMX
designator U?
Single/Dual Low Power, 250MHz, Low Noise Amplifiers, 8-pin Mini SOIC; PartNumber: LMH6655MMX; Manufacturer: National Semiconductor; PackageTopMarking: ZXTT*A67A; PowerWise: Y; Published: 1-Mar-2010; DatasheetVersion: Jun-2009; PackageVersion: revF, Apr-2008; PackageReference: MUA08A; Publisher: Altium Limited; PackageDescription: MINI SOIC, .118 x .118 x .034in, 8 Lead, .0256in Pitch; RoHS: N; PinCount: 8; CompType: Amplifiers; Code_JEDEC: MO-187-AA; ComponentLink1Description: LMH6655 Datasheet; ComponentLink1URL: http://www.national.com/ds/LM/LMH6655.pdf; ComponentLink2Description: LMH6655 Web Page; ComponentLink2URL: http://www.national.com/pf/LM/LMH6655.html; ComponentLink3Description: MUA08A Package Page; ComponentLink3URL: http://www.national.com/packaging/folders/mua08a.html
footprint MUA08A_N (TSOP, 8-Leads, Body 3x3mm, Pitch 0.65mm, IPC Medium Density)
footprint MUA08A_L (TSOP, 8-Leads, Body 3x3mm, Pitch 0.65mm, IPC High Density)
footprint MUA08A_M (TSOP, 8-Leads, Body 3x3mm, Pitch 0.65mm, IPC Low Density)
simulation model LMH6655 (SUBCKT)
pins on every part: 4 V- (power), 8 V+ (power)
part A pins: 1 OUTA (out), 2 INA- (in), 3 INA+ (in)
part B pins: 5 INB+ (in), 6 INB- (in), 7 OUTB (out)

## LMH6657MF
designator U?
270MHz Single Supply, Single & Dual Operational Amplifiers, 5-pin SOT-23; PartNumber: LMH6657MF; Manufacturer: National Semiconductor; PackageTopMarking: A85A*XTT; PowerWise: Y; Published: 4-Dec-2008; LatestRevisionDate: 13-Jan-2009; LatestRevisionNote: Sim Model Added.; DatasheetVersion: Oct-2004; PackageVersion: revD, Aug-2008; PackageReference: MF05A; Publisher: Altium Limited; PackageDescription: Molded SOT-23, .115 x .063 x .040 in Body, 5 Lead, .0375 in Pitch; Supplier 1: Farnell; Supplier Part Number 1: 8180784; RoHS: N; PinCount: 5; CompType: Amplifiers; ComponentLink1Description: LMH6657 Datasheet; ComponentLink1URL: http://www.national.com/ds/LM/LMH6657.pdf; ComponentLink2Description: LMH6657 Web Page; ComponentLink2URL: http://www.national.com/pf/LM/LMH6657.html; ComponentLink3Description: MF05A Package Page; ComponentLink3URL: http://www.national.com/packaging/folders/mf05a.html
footprint MF05A_N (SOT23, 5-Leads, Body 2.9x1.6mm, Pitch 0.95mm, Lead Span 2.8mm, IPC Medium Density)
footprint MF05A_L (SOT23, 5-Leads, Body 2.9x1.6mm, Pitch 0.95mm, Lead Span 2.8mm, IPC High Density)
footprint MF05A_M (SOT23, 5-Leads, Body 2.9x1.6mm, Pitch 0.95mm, Lead Span 2.8mm, IPC Low Density)
simulation model LMH6657 (SUBCKT)
pins: 1 OUT (out), 2 V- (power), 3 IN+ (in), 4 IN- (in), 5 V+ (power)

## LMH6657MF/NOPB
designator U?
270MHz Single Supply, Single & Dual Operational Amplifiers, 5-pin SOT-23, Pb-Free; PartNumber: LMH6657MF/NOPB; Manufacturer: National Semiconductor; PackageTopMarking: A85A*XTT; PowerWise: Y; Published: 1-Mar-2010; DatasheetVersion: Oct-2004; PackageVersion: revD, Aug-2008; PackageReference: MF05A; Publisher: Altium Limited; PackageDescription: Molded SOT-23, .115 x .063 x .040 in Body, 5 Lead, .0375 in Pitch; Supplier 1: Digi-Key; Supplier Part Number 1: LMH6657MFTR-ND; Supplier 2: Digi-Key; Supplier Part Number 2: LMH6657MFCT-ND; Supplier 3: Digi-Key; Supplier Part Number 3: LMH6657MFDKR-ND; Supplier 4: Farnell; Supplier Part Number 4: 1559328; RoHS: Y; PinCount: 5; CompType: Amplifiers; ComponentLink1Description: LMH6657 Datasheet; ComponentLink1URL: http://www.national.com/ds/LM/LMH6657.pdf; ComponentLink2Description: LMH6657 Web Page; ComponentLink2URL: http://www.national.com/pf/LM/LMH6657.html; ComponentLink3Description: MF05A Package Page; ComponentLink3URL: http://www.national.com/packaging/folders/mf05a.html
footprint MF05A_N (SOT23, 5-Leads, Body 2.9x1.6mm, Pitch 0.95mm, Lead Span 2.8mm, IPC Medium Density)
footprint MF05A_L (SOT23, 5-Leads, Body 2.9x1.6mm, Pitch 0.95mm, Lead Span 2.8mm, IPC High Density)
footprint MF05A_M (SOT23, 5-Leads, Body 2.9x1.6mm, Pitch 0.95mm, Lead Span 2.8mm, IPC Low Density)
simulation model LMH6657 (SUBCKT)
pins: 1 OUT (out), 2 V- (power), 3 IN+ (in), 4 IN- (in), 5 V+ (power)

## LMH6657MFX
designator U?
270MHz Single Supply, Single & Dual Operational Amplifiers, 5-pin SOT-23; PartNumber: LMH6657MFX; Manufacturer: National Semiconductor; PackageTopMarking: A85A*XTT; PowerWise: Y; Published: 1-Mar-2010; DatasheetVersion: Oct-2004; PackageVersion: revD, Aug-2008; PackageReference: MF05A; Publisher: Altium Limited; PackageDescription: Molded SOT-23, .115 x .063 x .040 in Body, 5 Lead, .0375 in Pitch; RoHS: N; PinCount: 5; CompType: Amplifiers; ComponentLink1Description: LMH6657 Datasheet; ComponentLink1URL: http://www.national.com/ds/LM/LMH6657.pdf; ComponentLink2Description: LMH6657 Web Page; ComponentLink2URL: http://www.national.com/pf/LM/LMH6657.html; ComponentLink3Description: MF05A Package Page; ComponentLink3URL: http://www.national.com/packaging/folders/mf05a.html
footprint MF05A_N (SOT23, 5-Leads, Body 2.9x1.6mm, Pitch 0.95mm, Lead Span 2.8mm, IPC Medium Density)
footprint MF05A_L (SOT23, 5-Leads, Body 2.9x1.6mm, Pitch 0.95mm, Lead Span 2.8mm, IPC High Density)
footprint MF05A_M (SOT23, 5-Leads, Body 2.9x1.6mm, Pitch 0.95mm, Lead Span 2.8mm, IPC Low Density)
simulation model LMH6657 (SUBCKT)
pins: 1 OUT (out), 2 V- (power), 3 IN+ (in), 4 IN- (in), 5 V+ (power)

## LMH6657MG
designator U?
270MHz Single Supply, Single & Dual Operational Amplifiers, 5-pin SC-70; PartNumber: LMH6657MG; Manufacturer: National Semiconductor; PackageTopMarking: A76*XTT; PowerWise: Y; Published: 4-Dec-2008; LatestRevisionDate: 13-Jan-2009; LatestRevisionNote: Sim Model Added.; DatasheetVersion: Oct-2004; PackageVersion: revD, Jun-2007; PackageReference: MAA05A; Publisher: Altium Limited; PackageDescription: Molded SC-70, 2 x 1.25 x .9mm, 5 Lead, 0.65mm Pitch; Supplier 1: Farnell; Supplier Part Number 1: 8180792; RoHS: N; PinCount: 5; CompType: Amplifiers; Code_JEITA: SC-88A; Code_JEDEC: MO-203-AA; Code_IPC: SOT353-5; ComponentLink1Description: LMH6657 Datasheet; ComponentLink1URL: http://www.national.com/ds/LM/LMH6657.pdf; ComponentLink2Description: LMH6657 Web Page; ComponentLink2URL: http://www.national.com/pf/LM/LMH6657.html; ComponentLink3Description: MAA05A Package Page; ComponentLink3URL: http://www.national.com/packaging/folders/maa05a.html
footprint MAA05A_N (SOT353, 5-Leads, Body 2x1.3mm, Pitch 0.65mm, Lead Span 2.1mm, IPC Medium Density)
footprint MAA05A_L (SOT353, 5-Leads, Body 2x1.3mm, Pitch 0.65mm, Lead Span 2.1mm, IPC High Density)
footprint MAA05A_M (SOT353, 5-Leads, Body 2x1.3mm, Pitch 0.65mm, Lead Span 2.1mm, IPC Low Density)
simulation model LMH6657 (SUBCKT)
pins: 1 OUT (out), 2 V- (power), 3 IN+ (in), 4 IN- (in), 5 V+ (power)

## LMH6657MG/NOPB
designator U?
270MHz Single Supply, Single & Dual Operational Amplifiers, 5-pin SC-70, Pb-Free; PartNumber: LMH6657MG/NOPB; Manufacturer: National Semiconductor; PackageTopMarking: A76*XTT; PowerWise: Y; Published: 1-Mar-2010; DatasheetVersion: Oct-2004; PackageVersion: revD, Jun-2007; PackageReference: MAA05A; Publisher: Altium Limited; PackageDescription: Molded SC-70, 2 x 1.25 x .9mm, 5 Lead, 0.65mm Pitch; Supplier 1: Digi-Key; Supplier Part Number 1: LMH6657MGTR-ND; Supplier 2: Digi-Key; Supplier Part Number 2: LMH6657MGCT-ND; Supplier 3: Digi-Key; Supplier Part Number 3: LMH6657MGDKR-ND; Supplier 4: Farnell; Supplier Part Number 4: 1693962; RoHS: Y; PinCount: 5; CompType: Amplifiers; Code_JEITA: SC-88A; Code_JEDEC: MO-203-AA; Code_IPC: SOT353-5; ComponentLink1Description: LMH6657 Datasheet; ComponentLink1URL: http://www.national.com/ds/LM/LMH6657.pdf; ComponentLink2Description: LMH6657 Web Page; ComponentLink2URL: http://www.national.com/pf/LM/LMH6657.html; ComponentLink3Description: MAA05A Package Page; ComponentLink3URL: http://www.national.com/packaging/folders/maa05a.html
footprint MAA05A_N (SOT353, 5-Leads, Body 2x1.3mm, Pitch 0.65mm, Lead Span 2.1mm, IPC Medium Density)
footprint MAA05A_L (SOT353, 5-Leads, Body 2x1.3mm, Pitch 0.65mm, Lead Span 2.1mm, IPC High Density)
footprint MAA05A_M (SOT353, 5-Leads, Body 2x1.3mm, Pitch 0.65mm, Lead Span 2.1mm, IPC Low Density)
simulation model LMH6657 (SUBCKT)
pins: 1 OUT (out), 2 V- (power), 3 IN+ (in), 4 IN- (in), 5 V+ (power)

## LMH6657MGX
designator U?
270MHz Single Supply, Single & Dual Operational Amplifiers, 5-pin SC-70; PartNumber: LMH6657MGX; Manufacturer: National Semiconductor; PackageTopMarking: A76*XTT; PowerWise: Y; Published: 1-Mar-2010; DatasheetVersion: Oct-2004; PackageVersion: revD, Jun-2007; PackageReference: MAA05A; Publisher: Altium Limited; PackageDescription: Molded SC-70, 2 x 1.25 x .9mm, 5 Lead, 0.65mm Pitch; RoHS: N; PinCount: 5; CompType: Amplifiers; Code_JEITA: SC-88A; Code_JEDEC: MO-203-AA; Code_IPC: SOT353-5; ComponentLink1Description: LMH6657 Datasheet; ComponentLink1URL: http://www.national.com/ds/LM/LMH6657.pdf; ComponentLink2Description: LMH6657 Web Page; ComponentLink2URL: http://www.national.com/pf/LM/LMH6657.html; ComponentLink3Description: MAA05A Package Page; ComponentLink3URL: http://www.national.com/packaging/folders/maa05a.html
footprint MAA05A_N (SOT353, 5-Leads, Body 2x1.3mm, Pitch 0.65mm, Lead Span 2.1mm, IPC Medium Density)
footprint MAA05A_L (SOT353, 5-Leads, Body 2x1.3mm, Pitch 0.65mm, Lead Span 2.1mm, IPC High Density)
footprint MAA05A_M (SOT353, 5-Leads, Body 2x1.3mm, Pitch 0.65mm, Lead Span 2.1mm, IPC Low Density)
simulation model LMH6657 (SUBCKT)
pins: 1 OUT (out), 2 V- (power), 3 IN+ (in), 4 IN- (in), 5 V+ (power)

## LMH6658MA
designator U?
270MHz Single Supply, Single & Dual Operational Amplifiers, 8-pin Narrow SOIC; PartNumber: LMH6658MA; Manufacturer: National Semiconductor; PackageTopMarking: NSZXTT*LMH66*58MA; PowerWise: Y; Published: 4-Dec-2008; LatestRevisionDate: 13-Jan-2009; LatestRevisionNote: Sim Model Added.; DatasheetVersion: Oct-2004; PackageVersion: revM, May-2009; PackageReference: M08A; Publisher: Altium Limited; PackageDescription: SOIC Narrow, 4.9 x 3.9 x 1.45mm, 8 Lead, 1.27mm Pitch; Supplier 1: Farnell; Supplier Part Number 1: 8180806; RoHS: N; PinCount: 8; CompType: Amplifiers; Code_JEDEC: MS-012-AA; Code_IPC: SOIC127P600-8; ComponentLink1Description: LMH6658 Datasheet; ComponentLink1URL: http://www.national.com/ds/LM/LMH6658.pdf; ComponentLink2Description: LMH6658 Web Page; ComponentLink2URL: http://www.national.com/pf/LM/LMH6658.html; ComponentLink3Description: M08A Package Page; ComponentLink3URL: http://www.national.com/packaging/folders/m08a.html
footprint M08A_N (SOIC, 8-Leads, Body 4.9x3.9mm, Pitch 1.27mm, IPC Medium Density)
footprint M08A_L (SOIC, 8-Leads, Body 4.9x3.9mm, Pitch 1.27mm, IPC High Density)
footprint M08A_M (SOIC, 8-Leads, Body 4.9x3.9mm, Pitch 1.27mm, IPC Low Density)
simulation model LMH6657 (SUBCKT)
pins on every part: 4 V- (power), 8 V+ (power)
part A pins: 1 OUTA (out), 2 INA- (in), 3 INA+ (in)
part B pins: 5 INB+ (in), 6 INB- (in), 7 OUTB (out)

## LMH6658MA/NOPB
designator U?
270MHz Single Supply, Single & Dual Operational Amplifiers, 8-pin Narrow SOIC, Pb-Free; PartNumber: LMH6658MA/NOPB; Manufacturer: National Semiconductor; PackageTopMarking: NSZXTT*LMH66*58MA; PowerWise: Y; Published: 1-Mar-2010; DatasheetVersion: Oct-2004; PackageVersion: revM, May-2009; PackageReference: M08A; Publisher: Altium Limited; PackageDescription: SOIC Narrow, 4.9 x 3.9 x 1.45mm, 8 Lead, 1.27mm Pitch; Supplier 1: Digi-Key; Supplier Part Number 1: LMH6658MA-ND; Supplier 2: Farnell; Supplier Part Number 2: 1559329; RoHS: Y; PinCount: 8; CompType: Amplifiers; Code_JEDEC: MS-012-AA; Code_IPC: SOIC127P600-8; ComponentLink1Description: LMH6658 Datasheet; ComponentLink1URL: http://www.national.com/ds/LM/LMH6658.pdf; ComponentLink2Description: LMH6658 Web Page; ComponentLink2URL: http://www.national.com/pf/LM/LMH6658.html; ComponentLink3Description: M08A Package Page; ComponentLink3URL: http://www.national.com/packaging/folders/m08a.html
footprint M08A_N (SOIC, 8-Leads, Body 4.9x3.9mm, Pitch 1.27mm, IPC Medium Density)
footprint M08A_L (SOIC, 8-Leads, Body 4.9x3.9mm, Pitch 1.27mm, IPC High Density)
footprint M08A_M (SOIC, 8-Leads, Body 4.9x3.9mm, Pitch 1.27mm, IPC Low Density)
simulation model LMH6657 (SUBCKT)
pins on every part: 4 V- (power), 8 V+ (power)
part A pins: 1 OUTA (out), 2 INA- (in), 3 INA+ (in)
part B pins: 5 INB+ (in), 6 INB- (in), 7 OUTB (out)

## LMH6658MAX
designator U?
270MHz Single Supply, Single & Dual Operational Amplifiers, 8-pin Narrow SOIC; PartNumber: LMH6658MAX; Manufacturer: National Semiconductor; PackageTopMarking: NSZXTT*LMH66*58MA; PowerWise: Y; Published: 1-Mar-2010; DatasheetVersion: Oct-2004; PackageVersion: revM, May-2009; PackageReference: M08A; Publisher: Altium Limited; PackageDescription: SOIC Narrow, 4.9 x 3.9 x 1.45mm, 8 Lead, 1.27mm Pitch; RoHS: N; PinCount: 8; CompType: Amplifiers; Code_JEDEC: MS-012-AA; Code_IPC: SOIC127P600-8; ComponentLink1Description: LMH6658 Datasheet; ComponentLink1URL: http://www.national.com/ds/LM/LMH6658.pdf; ComponentLink2Description: LMH6658 Web Page; ComponentLink2URL: http://www.national.com/pf/LM/LMH6658.html; ComponentLink3Description: M08A Package Page; ComponentLink3URL: http://www.national.com/packaging/folders/m08a.html
footprint M08A_N (SOIC, 8-Leads, Body 4.9x3.9mm, Pitch 1.27mm, IPC Medium Density)
footprint M08A_L (SOIC, 8-Leads, Body 4.9x3.9mm, Pitch 1.27mm, IPC High Density)
footprint M08A_M (SOIC, 8-Leads, Body 4.9x3.9mm, Pitch 1.27mm, IPC Low Density)
simulation model LMH6657 (SUBCKT)
pins on every part: 4 V- (power), 8 V+ (power)
part A pins: 1 OUTA (out), 2 INA- (in), 3 INA+ (in)
part B pins: 5 INB+ (in), 6 INB- (in), 7 OUTB (out)

## LMH6658MM
designator U?
270MHz Single Supply, Single & Dual Operational Amplifiers, 8-pin Mini SOIC; PartNumber: LMH6658MM; Manufacturer: National Semiconductor; PackageTopMarking: ZXTT*A88A; PowerWise: Y; Published: 4-Dec-2008; LatestRevisionDate: 13-Jan-2009; LatestRevisionNote: Sim Model Added.; DatasheetVersion: Oct-2004; PackageVersion: revF, Apr-2008; PackageReference: MUA08A; Publisher: Altium Limited; PackageDescription: MINI SOIC, .118 x .118 x .034in, 8 Lead, .0256in Pitch; Supplier 1: Farnell; Supplier Part Number 1: 8180814; RoHS: N; PinCount: 8; CompType: Amplifiers; Code_JEDEC: MO-187-AA; ComponentLink1Description: LMH6658 Datasheet; ComponentLink1URL: http://www.national.com/ds/LM/LMH6658.pdf; ComponentLink2Description: LMH6658 Web Page; ComponentLink2URL: http://www.national.com/pf/LM/LMH6658.html; ComponentLink3Description: MUA08A Package Page; ComponentLink3URL: http://www.national.com/packaging/folders/mua08a.html
footprint MUA08A_N (TSOP, 8-Leads, Body 3x3mm, Pitch 0.65mm, IPC Medium Density)
footprint MUA08A_L (TSOP, 8-Leads, Body 3x3mm, Pitch 0.65mm, IPC High Density)
footprint MUA08A_M (TSOP, 8-Leads, Body 3x3mm, Pitch 0.65mm, IPC Low Density)
simulation model LMH6657 (SUBCKT)
pins on every part: 4 V- (power), 8 V+ (power)
part A pins: 1 OUTA (out), 2 INA- (in), 3 INA+ (in)
part B pins: 5 INB+ (in), 6 INB- (in), 7 OUTB (out)

## LMH6658MM/NOPB
designator U?
270MHz Single Supply, Single & Dual Operational Amplifiers, 8-pin Mini SOIC, Pb-Free; PartNumber: LMH6658MM/NOPB; Manufacturer: National Semiconductor; PackageTopMarking: ZXTT*A88A; PowerWise: Y; Published: 1-Mar-2010; DatasheetVersion: Oct-2004; PackageVersion: revF, Apr-2008; PackageReference: MUA08A; Publisher: Altium Limited; PackageDescription: MINI SOIC, .118 x .118 x .034in, 8 Lead, .0256in Pitch; Supplier 1: Digi-Key; Supplier Part Number 1: LMH6658MMTR-ND; Supplier 2: Digi-Key; Supplier Part Number 2: LMH6658MMCT-ND; Supplier 3: Digi-Key; Supplier Part Number 3: LMH6658MMDKR-ND; RoHS: Y; PinCount: 8; CompType: Amplifiers; Code_JEDEC: MO-187-AA; ComponentLink1Description: LMH6658 Datasheet; ComponentLink1URL: http://www.national.com/ds/LM/LMH6658.pdf; ComponentLink2Description: LMH6658 Web Page; ComponentLink2URL: http://www.national.com/pf/LM/LMH6658.html; ComponentLink3Description: MUA08A Package Page; ComponentLink3URL: http://www.national.com/packaging/folders/mua08a.html
footprint MUA08A_N (TSOP, 8-Leads, Body 3x3mm, Pitch 0.65mm, IPC Medium Density)
footprint MUA08A_L (TSOP, 8-Leads, Body 3x3mm, Pitch 0.65mm, IPC High Density)
footprint MUA08A_M (TSOP, 8-Leads, Body 3x3mm, Pitch 0.65mm, IPC Low Density)
simulation model LMH6657 (SUBCKT)
pins on every part: 4 V- (power), 8 V+ (power)
part A pins: 1 OUTA (out), 2 INA- (in), 3 INA+ (in)
part B pins: 5 INB+ (in), 6 INB- (in), 7 OUTB (out)

## LMH6658MMX
designator U?
270MHz Single Supply, Single & Dual Operational Amplifiers, 8-pin Mini SOIC; PartNumber: LMH6658MMX; Manufacturer: National Semiconductor; PackageTopMarking: ZXTT*A88A; PowerWise: Y; Published: 1-Mar-2010; DatasheetVersion: Oct-2004; PackageVersion: revF, Apr-2008; PackageReference: MUA08A; Publisher: Altium Limited; PackageDescription: MINI SOIC, .118 x .118 x .034in, 8 Lead, .0256in Pitch; RoHS: N; PinCount: 8; CompType: Amplifiers; Code_JEDEC: MO-187-AA; ComponentLink1Description: LMH6658 Datasheet; ComponentLink1URL: http://www.national.com/ds/LM/LMH6658.pdf; ComponentLink2Description: LMH6658 Web Page; ComponentLink2URL: http://www.national.com/pf/LM/LMH6658.html; ComponentLink3Description: MUA08A Package Page; ComponentLink3URL: http://www.national.com/packaging/folders/mua08a.html
footprint MUA08A_N (TSOP, 8-Leads, Body 3x3mm, Pitch 0.65mm, IPC Medium Density)
footprint MUA08A_L (TSOP, 8-Leads, Body 3x3mm, Pitch 0.65mm, IPC High Density)
footprint MUA08A_M (TSOP, 8-Leads, Body 3x3mm, Pitch 0.65mm, IPC Low Density)
simulation model LMH6657 (SUBCKT)
pins on every part: 4 V- (power), 8 V+ (power)
part A pins: 1 OUTA (out), 2 INA- (in), 3 INA+ (in)
part B pins: 5 INB+ (in), 6 INB- (in), 7 OUTB (out)